# Altium integrated library Linear Technology Power Management LDO Linear Regulators.IntLib: 2339 symbols (part 62 of 131)
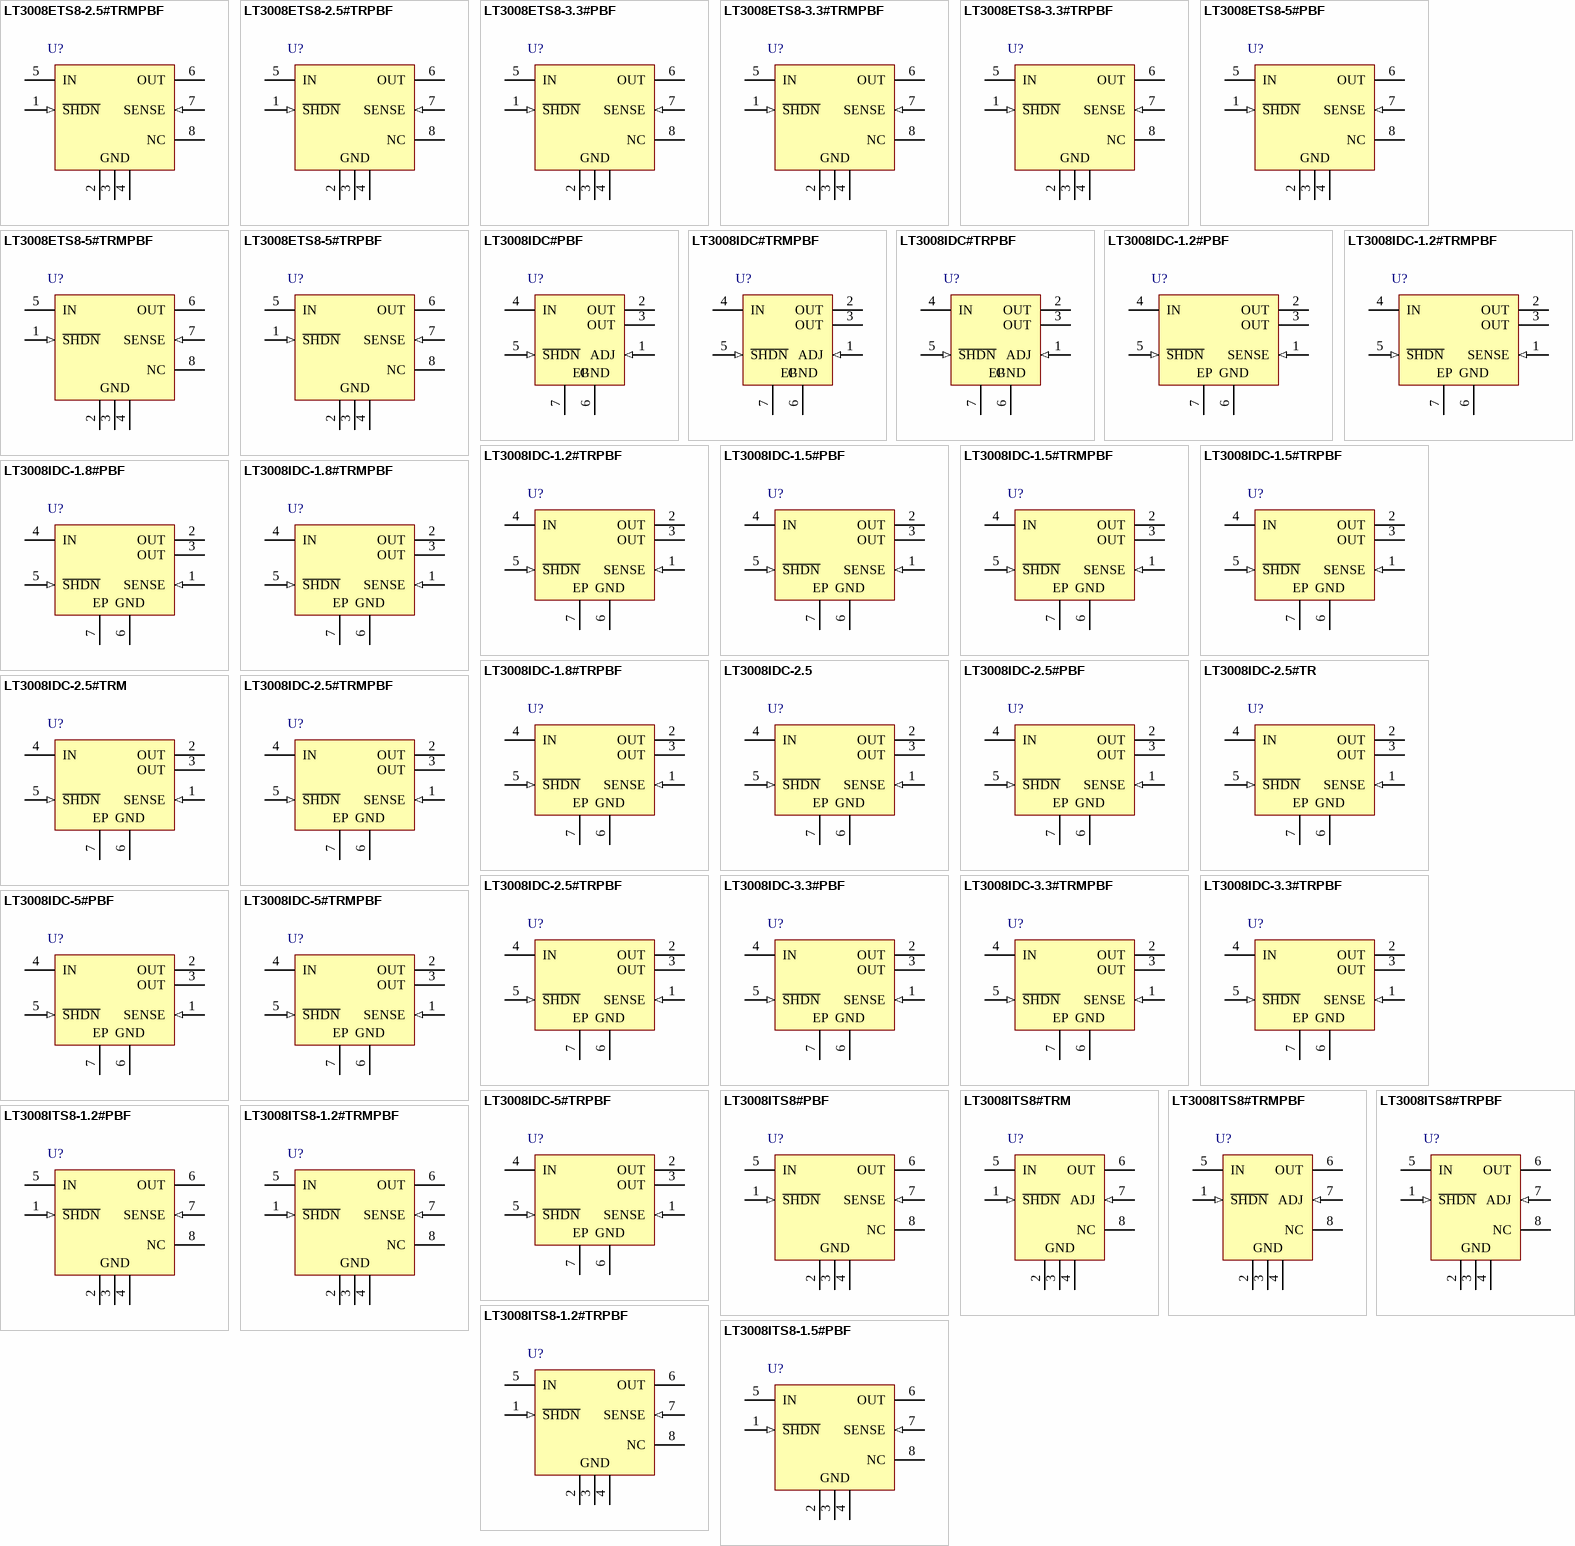
[diagram p130: symbols LT3008ETS8-2.5#TRMPBF to LT3008ITS8-1.5#PBF]

## LT3008ETS8-2.5#TRPBF
designator U?
3 uA IQ, 20 mA, Low Dropout Linear Regulator, 2 to 45 V Vin, 2.5 V Vout, 8-pin SOT23 (TS8-8), -40 to 125 degC, Pb-Free, Tape and Reel; Manufacturer: Linear Technology; PartNumber: LT3008ETS8-2.5#TRPBF; Discrete Pass Element: no; Dropout Voltage(V): 0.3; Iout(mA): 20; Isupply(mA): 0.003; Noise(uV): 92; Number of Outputs: 1; Output Voltage: 2.5 V; PSRR(dB): 61; Vin Max(V): 45; Vin Min(V): 2; DatasheetVersion: Rev. C; PackageVersion: Rev. A, 08/2010; PackageReference: TS8-8; PackageDescription: 8-Pin Plastic TSOT-23, Body 2.9 x 1.63 mm, Pitch 0.65 mm; Supplier 1: Digi-Key; Supplier Part Number 1: LT3008ETS8-2.5#TRPBF-ND; Packing: Tape and Reel; RoHS: TRUE; Shutdown Current(uA): 1; Mounting Technology: Surface Mount; Code_JEDEC: MO-193; ComponentLink1Description: Manufacturer URL; ComponentLink1URL: http://www.linear.com/; ComponentLink2Description: Datasheet; ComponentLink2URL: http://cds.linear.com/docs/en/datasheet/3008fc.pdf; ComponentLink3Description: Package Specification; ComponentLink3URL: http://cds.linear.com/docs/en/packaging/SOT_8_05-08-1637.pdf
footprint LT-TS8-8-TSOT-23_V (SOT23, 8-Leads, Body 2.90x1.63mm, Pitch 0.65mm, Recommended)
pins: 1 ~{SHDN} (in) "Shutdown. Pulling the S\H\D\N\ pin  low puts the LT3008 into a low power state and turns the  output off. If unused, tie the S\H\D\N\ pin to VIN. The LT3008  does not function if the S\H\D\N\ pin is not connected. The (See Datasheet)", 2 GND (power) "Ground. Connect the bottom of the resistor divider that sets output voltage directly to GND for the best regulation.", 3 GND (power) "Ground. Connect the bottom of the resistor divider that sets output voltage directly to GND for the best regulation.", 4 GND (power) "Ground. Connect the bottom of the resistor divider that sets output voltage directly to GND for the best regulation.", 5 IN (power) "Input. The IN pin supplies power to the device. The LT3008 requires a bypass capacitor at IN if  the device is more than six inches away from the main  input ?lter capacitor. In general, the output impedance of a batter(See Datasheet)", 6 OUT (power) "Output. This pin supplies power to the load. Use a minimum output capacitor of 2.2uF  to prevent oscillations. Large load transient applications  require larger output capacitors to limit peak voltage transients. See the (See Datasheet)", 7 SENSE (in) "Sense. For ?xed voltage versions of  the LT3008 (LT3008-1.2, LT3008-1.5, LT3008-1.8, LT3008- 2.5, LT3008-3.3, LT3008-5), the SENSE pin is the input to the error ampli?er. Optimum regulation is obtained at the point wh(See Datasheet)", 8 NC "No Connect. Pin 8  is an NC pin in the TSOT-23 package. This pin is not tied  to any internal circuitry. It may be ? oated, tied to VIN or  tied to GND."

## LT3008ETS8-3.3#PBF
designator U?
3 uA IQ, 20 mA, Low Dropout Linear Regulator, 2 to 45 V Vin, 3.3 V Vout, 8-pin SOT23 (TS8-8), -40 to 125 degC, Pb-Free; Manufacturer: Linear Technology; PartNumber: LT3008ETS8-3.3#PBF; Discrete Pass Element: no; Dropout Voltage(V): 0.3; Iout(mA): 20; Isupply(mA): 0.003; Noise(uV): 92; Number of Outputs: 1; Output Voltage: 3.3 V; PSRR(dB): 59; Vin Max(V): 45; Vin Min(V): 2; DatasheetVersion: Rev. C; PackageVersion: Rev. A, 08/2010; PackageReference: TS8-8; PackageDescription: 8-Pin Plastic TSOT-23, Body 2.9 x 1.63 mm, Pitch 0.65 mm; Supplier 1: Farnell; Supplier Part Number 1: 2308193; Supplier 2: Newark; Supplier Part Number 2: 78T3789; RoHS: TRUE; Shutdown Current(uA): 1; Mounting Technology: Surface Mount; Code_JEDEC: MO-193; ComponentLink1Description: Manufacturer URL; ComponentLink1URL: http://www.linear.com/; ComponentLink2Description: Datasheet; ComponentLink2URL: http://cds.linear.com/docs/en/datasheet/3008fc.pdf; ComponentLink3Description: Package Specification; ComponentLink3URL: http://cds.linear.com/docs/en/packaging/SOT_8_05-08-1637.pdf
footprint LT-TS8-8-TSOT-23_V (SOT23, 8-Leads, Body 2.90x1.63mm, Pitch 0.65mm, Recommended)
pins: 1 ~{SHDN} (in) "Shutdown. Pulling the S\H\D\N\ pin  low puts the LT3008 into a low power state and turns the  output off. If unused, tie the S\H\D\N\ pin to VIN. The LT3008  does not function if the S\H\D\N\ pin is not connected. The (See Datasheet)", 2 GND (power) "Ground. Connect the bottom of the resistor divider that sets output voltage directly to GND for the best regulation.", 3 GND (power) "Ground. Connect the bottom of the resistor divider that sets output voltage directly to GND for the best regulation.", 4 GND (power) "Ground. Connect the bottom of the resistor divider that sets output voltage directly to GND for the best regulation.", 5 IN (power) "Input. The IN pin supplies power to the device. The LT3008 requires a bypass capacitor at IN if  the device is more than six inches away from the main  input ?lter capacitor. In general, the output impedance of a batter(See Datasheet)", 6 OUT (power) "Output. This pin supplies power to the load. Use a minimum output capacitor of 2.2uF  to prevent oscillations. Large load transient applications  require larger output capacitors to limit peak voltage transients. See the (See Datasheet)", 7 SENSE (in) "Sense. For ?xed voltage versions of  the LT3008 (LT3008-1.2, LT3008-1.5, LT3008-1.8, LT3008- 2.5, LT3008-3.3, LT3008-5), the SENSE pin is the input to the error ampli?er. Optimum regulation is obtained at the point wh(See Datasheet)", 8 NC "No Connect. Pin 8  is an NC pin in the TSOT-23 package. This pin is not tied  to any internal circuitry. It may be ? oated, tied to VIN or  tied to GND."

## LT3008ETS8-3.3#TRMPBF
designator U?
3 uA IQ, 20 mA, Low Dropout Linear Regulator, 2 to 45 V Vin, 3.3 V Vout, 8-pin SOT23 (TS8-8), -40 to 125 degC, Pb-Free, Mini Tape and Reel; Manufacturer: Linear Technology; PartNumber: LT3008ETS8-3.3#TRMPBF; Discrete Pass Element: no; Dropout Voltage(V): 0.3; Iout(mA): 20; Isupply(mA): 0.003; Noise(uV): 92; Number of Outputs: 1; Output Voltage: 3.3 V; PSRR(dB): 59; Vin Max(V): 45; Vin Min(V): 2; DatasheetVersion: Rev. C; PackageVersion: Rev. A, 08/2010; PackageReference: TS8-8; PackageDescription: 8-Pin Plastic TSOT-23, Body 2.9 x 1.63 mm, Pitch 0.65 mm; Supplier 1: Digi-Key; Supplier Part Number 1: LT3008ETS8-3.3#TRMPBFTR-ND; Supplier 2: Digi-Key; Supplier Part Number 2: LT3008ETS8-3.3#TRMPBFCT-ND; Supplier 3: Digi-Key; Supplier Part Number 3: LT3008ETS8-3.3#TRMPBFDKR-ND; Supplier 4: Newark; Supplier Part Number 4: 24R6711; Packing: Mini Tape and Reel; RoHS: TRUE; Shutdown Current(uA): 1; Mounting Technology: Surface Mount; Code_JEDEC: MO-193; ComponentLink1Description: Manufacturer URL; ComponentLink1URL: http://www.linear.com/; ComponentLink2Description: Datasheet; ComponentLink2URL: http://cds.linear.com/docs/en/datasheet/3008fc.pdf; ComponentLink3Description: Package Specification; ComponentLink3URL: http://cds.linear.com/docs/en/packaging/SOT_8_05-08-1637.pdf
footprint LT-TS8-8-TSOT-23_V (SOT23, 8-Leads, Body 2.90x1.63mm, Pitch 0.65mm, Recommended)
pins: 1 ~{SHDN} (in) "Shutdown. Pulling the S\H\D\N\ pin  low puts the LT3008 into a low power state and turns the  output off. If unused, tie the S\H\D\N\ pin to VIN. The LT3008  does not function if the S\H\D\N\ pin is not connected. The (See Datasheet)", 2 GND (power) "Ground. Connect the bottom of the resistor divider that sets output voltage directly to GND for the best regulation.", 3 GND (power) "Ground. Connect the bottom of the resistor divider that sets output voltage directly to GND for the best regulation.", 4 GND (power) "Ground. Connect the bottom of the resistor divider that sets output voltage directly to GND for the best regulation.", 5 IN (power) "Input. The IN pin supplies power to the device. The LT3008 requires a bypass capacitor at IN if  the device is more than six inches away from the main  input ?lter capacitor. In general, the output impedance of a batter(See Datasheet)", 6 OUT (power) "Output. This pin supplies power to the load. Use a minimum output capacitor of 2.2uF  to prevent oscillations. Large load transient applications  require larger output capacitors to limit peak voltage transients. See the (See Datasheet)", 7 SENSE (in) "Sense. For ?xed voltage versions of  the LT3008 (LT3008-1.2, LT3008-1.5, LT3008-1.8, LT3008- 2.5, LT3008-3.3, LT3008-5), the SENSE pin is the input to the error ampli?er. Optimum regulation is obtained at the point wh(See Datasheet)", 8 NC "No Connect. Pin 8  is an NC pin in the TSOT-23 package. This pin is not tied  to any internal circuitry. It may be ? oated, tied to VIN or  tied to GND."

## LT3008ETS8-3.3#TRPBF
designator U?
3 uA IQ, 20 mA, Low Dropout Linear Regulator, 2 to 45 V Vin, 3.3 V Vout, 8-pin SOT23 (TS8-8), -40 to 125 degC, Pb-Free, Tape and Reel; Manufacturer: Linear Technology; PartNumber: LT3008ETS8-3.3#TRPBF; Discrete Pass Element: no; Dropout Voltage(V): 0.3; Iout(mA): 20; Isupply(mA): 0.003; Noise(uV): 92; Number of Outputs: 1; Output Voltage: 3.3 V; PSRR(dB): 59; Vin Max(V): 45; Vin Min(V): 2; DatasheetVersion: Rev. C; PackageVersion: Rev. A, 08/2010; PackageReference: TS8-8; PackageDescription: 8-Pin Plastic TSOT-23, Body 2.9 x 1.63 mm, Pitch 0.65 mm; Supplier 1: Digi-Key; Supplier Part Number 1: LT3008ETS8-3.3#TRPBF-ND; Supplier 2: Newark; Supplier Part Number 2: 24R6712; Packing: Tape and Reel; RoHS: TRUE; Shutdown Current(uA): 1; Mounting Technology: Surface Mount; Code_JEDEC: MO-193; ComponentLink1Description: Manufacturer URL; ComponentLink1URL: http://www.linear.com/; ComponentLink2Description: Datasheet; ComponentLink2URL: http://cds.linear.com/docs/en/datasheet/3008fc.pdf; ComponentLink3Description: Package Specification; ComponentLink3URL: http://cds.linear.com/docs/en/packaging/SOT_8_05-08-1637.pdf
footprint LT-TS8-8-TSOT-23_V (SOT23, 8-Leads, Body 2.90x1.63mm, Pitch 0.65mm, Recommended)
pins: 1 ~{SHDN} (in) "Shutdown. Pulling the S\H\D\N\ pin  low puts the LT3008 into a low power state and turns the  output off. If unused, tie the S\H\D\N\ pin to VIN. The LT3008  does not function if the S\H\D\N\ pin is not connected. The (See Datasheet)", 2 GND (power) "Ground. Connect the bottom of the resistor divider that sets output voltage directly to GND for the best regulation.", 3 GND (power) "Ground. Connect the bottom of the resistor divider that sets output voltage directly to GND for the best regulation.", 4 GND (power) "Ground. Connect the bottom of the resistor divider that sets output voltage directly to GND for the best regulation.", 5 IN (power) "Input. The IN pin supplies power to the device. The LT3008 requires a bypass capacitor at IN if  the device is more than six inches away from the main  input ?lter capacitor. In general, the output impedance of a batter(See Datasheet)", 6 OUT (power) "Output. This pin supplies power to the load. Use a minimum output capacitor of 2.2uF  to prevent oscillations. Large load transient applications  require larger output capacitors to limit peak voltage transients. See the (See Datasheet)", 7 SENSE (in) "Sense. For ?xed voltage versions of  the LT3008 (LT3008-1.2, LT3008-1.5, LT3008-1.8, LT3008- 2.5, LT3008-3.3, LT3008-5), the SENSE pin is the input to the error ampli?er. Optimum regulation is obtained at the point wh(See Datasheet)", 8 NC "No Connect. Pin 8  is an NC pin in the TSOT-23 package. This pin is not tied  to any internal circuitry. It may be ? oated, tied to VIN or  tied to GND."

## LT3008ETS8-5#PBF
designator U?
3 uA IQ, 20 mA, Low Dropout Linear Regulator, 2 to 45 V Vin, 5 V Vout, 8-pin SOT23 (TS8-8), -40 to 125 degC, Pb-Free; Manufacturer: Linear Technology; PartNumber: LT3008ETS8-5#PBF; Discrete Pass Element: no; Dropout Voltage(V): 0.3; Iout(mA): 20; Isupply(mA): 0.003; Noise(uV): 92; Number of Outputs: 1; Output Voltage: 5 V; PSRR(dB): 54; Vin Max(V): 45; Vin Min(V): 2; DatasheetVersion: Rev. C; PackageVersion: Rev. A, 08/2010; PackageReference: TS8-8; PackageDescription: 8-Pin Plastic TSOT-23, Body 2.9 x 1.63 mm, Pitch 0.65 mm; Supplier 1: Farnell; Supplier Part Number 1: 2308194; Supplier 2: Newark; Supplier Part Number 2: 78T3790; RoHS: TRUE; Shutdown Current(uA): 1; Mounting Technology: Surface Mount; Code_JEDEC: MO-193; ComponentLink1Description: Manufacturer URL; ComponentLink1URL: http://www.linear.com/; ComponentLink2Description: Datasheet; ComponentLink2URL: http://cds.linear.com/docs/en/datasheet/3008fc.pdf; ComponentLink3Description: Package Specification; ComponentLink3URL: http://cds.linear.com/docs/en/packaging/SOT_8_05-08-1637.pdf
footprint LT-TS8-8-TSOT-23_V (SOT23, 8-Leads, Body 2.90x1.63mm, Pitch 0.65mm, Recommended)
pins: 1 ~{SHDN} (in) "Shutdown. Pulling the S\H\D\N\ pin  low puts the LT3008 into a low power state and turns the  output off. If unused, tie the S\H\D\N\ pin to VIN. The LT3008  does not function if the S\H\D\N\ pin is not connected. The (See Datasheet)", 2 GND (power) "Ground. Connect the bottom of the resistor divider that sets output voltage directly to GND for the best regulation.", 3 GND (power) "Ground. Connect the bottom of the resistor divider that sets output voltage directly to GND for the best regulation.", 4 GND (power) "Ground. Connect the bottom of the resistor divider that sets output voltage directly to GND for the best regulation.", 5 IN (power) "Input. The IN pin supplies power to the device. The LT3008 requires a bypass capacitor at IN if  the device is more than six inches away from the main  input ?lter capacitor. In general, the output impedance of a batter(See Datasheet)", 6 OUT (power) "Output. This pin supplies power to the load. Use a minimum output capacitor of 2.2uF  to prevent oscillations. Large load transient applications  require larger output capacitors to limit peak voltage transients. See the (See Datasheet)", 7 SENSE (in) "Sense. For ?xed voltage versions of  the LT3008 (LT3008-1.2, LT3008-1.5, LT3008-1.8, LT3008- 2.5, LT3008-3.3, LT3008-5), the SENSE pin is the input to the error ampli?er. Optimum regulation is obtained at the point wh(See Datasheet)", 8 NC "No Connect. Pin 8  is an NC pin in the TSOT-23 package. This pin is not tied  to any internal circuitry. It may be ? oated, tied to VIN or  tied to GND."

## LT3008ETS8-5#TRMPBF
designator U?
3 uA IQ, 20 mA, Low Dropout Linear Regulator, 2 to 45 V Vin, 5 V Vout, 8-pin SOT23 (TS8-8), -40 to 125 degC, Pb-Free, Mini Tape and Reel; Manufacturer: Linear Technology; PartNumber: LT3008ETS8-5#TRMPBF; Discrete Pass Element: no; Dropout Voltage(V): 0.3; Iout(mA): 20; Isupply(mA): 0.003; Noise(uV): 92; Number of Outputs: 1; Output Voltage: 5 V; PSRR(dB): 54; Vin Max(V): 45; Vin Min(V): 2; DatasheetVersion: Rev. C; PackageVersion: Rev. A, 08/2010; PackageReference: TS8-8; PackageDescription: 8-Pin Plastic TSOT-23, Body 2.9 x 1.63 mm, Pitch 0.65 mm; Supplier 1: Digi-Key; Supplier Part Number 1: LT3008ETS8-5#TRMPBFTR-ND; Supplier 2: Digi-Key; Supplier Part Number 2: LT3008ETS8-5#TRMPBFCT-ND; Supplier 3: Digi-Key; Supplier Part Number 3: LT3008ETS8-5#TRMPBFDKR-ND; Supplier 4: Newark; Supplier Part Number 4: 24R6713; Packing: Mini Tape and Reel; RoHS: TRUE; Shutdown Current(uA): 1; Mounting Technology: Surface Mount; Code_JEDEC: MO-193; ComponentLink1Description: Manufacturer URL; ComponentLink1URL: http://www.linear.com/; ComponentLink2Description: Datasheet; ComponentLink2URL: http://cds.linear.com/docs/en/datasheet/3008fc.pdf; ComponentLink3Description: Package Specification; ComponentLink3URL: http://cds.linear.com/docs/en/packaging/SOT_8_05-08-1637.pdf
footprint LT-TS8-8-TSOT-23_V (SOT23, 8-Leads, Body 2.90x1.63mm, Pitch 0.65mm, Recommended)
pins: 1 ~{SHDN} (in) "Shutdown. Pulling the S\H\D\N\ pin  low puts the LT3008 into a low power state and turns the  output off. If unused, tie the S\H\D\N\ pin to VIN. The LT3008  does not function if the S\H\D\N\ pin is not connected. The (See Datasheet)", 2 GND (power) "Ground. Connect the bottom of the resistor divider that sets output voltage directly to GND for the best regulation.", 3 GND (power) "Ground. Connect the bottom of the resistor divider that sets output voltage directly to GND for the best regulation.", 4 GND (power) "Ground. Connect the bottom of the resistor divider that sets output voltage directly to GND for the best regulation.", 5 IN (power) "Input. The IN pin supplies power to the device. The LT3008 requires a bypass capacitor at IN if  the device is more than six inches away from the main  input ?lter capacitor. In general, the output impedance of a batter(See Datasheet)", 6 OUT (power) "Output. This pin supplies power to the load. Use a minimum output capacitor of 2.2uF  to prevent oscillations. Large load transient applications  require larger output capacitors to limit peak voltage transients. See the (See Datasheet)", 7 SENSE (in) "Sense. For ?xed voltage versions of  the LT3008 (LT3008-1.2, LT3008-1.5, LT3008-1.8, LT3008- 2.5, LT3008-3.3, LT3008-5), the SENSE pin is the input to the error ampli?er. Optimum regulation is obtained at the point wh(See Datasheet)", 8 NC "No Connect. Pin 8  is an NC pin in the TSOT-23 package. This pin is not tied  to any internal circuitry. It may be ? oated, tied to VIN or  tied to GND."

## LT3008ETS8-5#TRPBF
designator U?
3 uA IQ, 20 mA, Low Dropout Linear Regulator, 2 to 45 V Vin, 5 V Vout, 8-pin SOT23 (TS8-8), -40 to 125 degC, Pb-Free, Tape and Reel; Manufacturer: Linear Technology; PartNumber: LT3008ETS8-5#TRPBF; Discrete Pass Element: no; Dropout Voltage(V): 0.3; Iout(mA): 20; Isupply(mA): 0.003; Noise(uV): 92; Number of Outputs: 1; Output Voltage: 5 V; PSRR(dB): 54; Vin Max(V): 45; Vin Min(V): 2; DatasheetVersion: Rev. C; PackageVersion: Rev. A, 08/2010; PackageReference: TS8-8; PackageDescription: 8-Pin Plastic TSOT-23, Body 2.9 x 1.63 mm, Pitch 0.65 mm; Supplier 1: Digi-Key; Supplier Part Number 1: LT3008ETS8-5#TRPBF-ND; Packing: Tape and Reel; RoHS: TRUE; Shutdown Current(uA): 1; Mounting Technology: Surface Mount; Code_JEDEC: MO-193; ComponentLink1Description: Manufacturer URL; ComponentLink1URL: http://www.linear.com/; ComponentLink2Description: Datasheet; ComponentLink2URL: http://cds.linear.com/docs/en/datasheet/3008fc.pdf; ComponentLink3Description: Package Specification; ComponentLink3URL: http://cds.linear.com/docs/en/packaging/SOT_8_05-08-1637.pdf
footprint LT-TS8-8-TSOT-23_V (SOT23, 8-Leads, Body 2.90x1.63mm, Pitch 0.65mm, Recommended)
pins: 1 ~{SHDN} (in) "Shutdown. Pulling the S\H\D\N\ pin  low puts the LT3008 into a low power state and turns the  output off. If unused, tie the S\H\D\N\ pin to VIN. The LT3008  does not function if the S\H\D\N\ pin is not connected. The (See Datasheet)", 2 GND (power) "Ground. Connect the bottom of the resistor divider that sets output voltage directly to GND for the best regulation.", 3 GND (power) "Ground. Connect the bottom of the resistor divider that sets output voltage directly to GND for the best regulation.", 4 GND (power) "Ground. Connect the bottom of the resistor divider that sets output voltage directly to GND for the best regulation.", 5 IN (power) "Input. The IN pin supplies power to the device. The LT3008 requires a bypass capacitor at IN if  the device is more than six inches away from the main  input ?lter capacitor. In general, the output impedance of a batter(See Datasheet)", 6 OUT (power) "Output. This pin supplies power to the load. Use a minimum output capacitor of 2.2uF  to prevent oscillations. Large load transient applications  require larger output capacitors to limit peak voltage transients. See the (See Datasheet)", 7 SENSE (in) "Sense. For ?xed voltage versions of  the LT3008 (LT3008-1.2, LT3008-1.5, LT3008-1.8, LT3008- 2.5, LT3008-3.3, LT3008-5), the SENSE pin is the input to the error ampli?er. Optimum regulation is obtained at the point wh(See Datasheet)", 8 NC "No Connect. Pin 8  is an NC pin in the TSOT-23 package. This pin is not tied  to any internal circuitry. It may be ? oated, tied to VIN or  tied to GND."

## LT3008IDC#PBF
designator U?
3 uA IQ, 20 mA, Low Dropout Linear Regulator, 2 to 45 V Vin, Adjustable Vout, 6-pin SON (DC6-6), -40 to 125 degC, Pb-Free; Manufacturer: Linear Technology; PartNumber: LT3008IDC#PBF; Discrete Pass Element: no; Dropout Voltage(V): 0.3; Iout(mA): 20; Isupply(mA): 0.003; Noise(uV): 92; Number of Outputs: 1; Output Voltage: Adj; PSRR(dB): 70; Vin Max(V): 45; Vin Min(V): 2; Vout Max(V): 44.5; Vout Min(V): 0.6; DatasheetVersion: Rev. C; PackageVersion: Rev. B, 06/2010; PackageReference: DC6-6; PackageDescription: 6-Pin Plastic DFN, Body 2 x 2 mm, Pitch 0.5 mm; Supplier 1: Newark; Supplier Part Number 1: 78T3797; RoHS: TRUE; Shutdown Current(uA): 1; Mounting Technology: Surface Mount; Code_JEDEC: MO-229; ComponentLink1Description: Manufacturer URL; ComponentLink1URL: http://www.linear.com/; ComponentLink2Description: Datasheet; ComponentLink2URL: http://cds.linear.com/docs/en/datasheet/3008fc.pdf; ComponentLink3Description: Package Specification; ComponentLink3URL: http://cds.linear.com/docs/en/packaging/DFN_6_05-08-1703.pdf
footprint LT-DC6-6_V (SON, 6-Leads, Body 2x2mm, Pitch 0.5mm, Thermal Pad 1.42x0.61mm)
pins: 1 ADJ (in), 2 OUT (power), 3 OUT (power), 4 IN (power), 5 ~{SHDN} (in), 6 GND (power) "Ground. Connect the bottom of the resistor divider that sets output voltage directly to GND for the best regulation.", 7 EP (power) "Ground. The Exposed Pad (backside) of the DFN package is an electrical connection to GND. To ensure optimum performance, solder Pin 7 to the PCB and tie directly to Pin 6."

## LT3008IDC#TRMPBF
designator U?
3 uA IQ, 20 mA, Low Dropout Linear Regulator, 2 to 45 V Vin, Adjustable Vout, 6-pin SON (DC6-6), -40 to 125 degC, Pb-Free, Mini Tape and Reel; Manufacturer: Linear Technology; PartNumber: LT3008IDC#TRMPBF; Discrete Pass Element: no; Dropout Voltage(V): 0.3; Iout(mA): 20; Isupply(mA): 0.003; Noise(uV): 92; Number of Outputs: 1; Output Voltage: Adj; PSRR(dB): 70; Vin Max(V): 45; Vin Min(V): 2; Vout Max(V): 44.5; Vout Min(V): 0.6; DatasheetVersion: Rev. C; PackageVersion: Rev. B, 06/2010; PackageReference: DC6-6; PackageDescription: 6-Pin Plastic DFN, Body 2 x 2 mm, Pitch 0.5 mm; Supplier 1: Digi-Key; Supplier Part Number 1: LT3008IDC#TRMPBF-ND; Packing: Mini Tape and Reel; RoHS: TRUE; Shutdown Current(uA): 1; Mounting Technology: Surface Mount; Code_JEDEC: MO-229; ComponentLink1Description: Manufacturer URL; ComponentLink1URL: http://www.linear.com/; ComponentLink2Description: Datasheet; ComponentLink2URL: http://cds.linear.com/docs/en/datasheet/3008fc.pdf; ComponentLink3Description: Package Specification; ComponentLink3URL: http://cds.linear.com/docs/en/packaging/DFN_6_05-08-1703.pdf
footprint LT-DC6-6_V (SON, 6-Leads, Body 2x2mm, Pitch 0.5mm, Thermal Pad 1.42x0.61mm)
pins: 1 ADJ (in), 2 OUT (power), 3 OUT (power), 4 IN (power), 5 ~{SHDN} (in), 6 GND (power) "Ground. Connect the bottom of the resistor divider that sets output voltage directly to GND for the best regulation.", 7 EP (power) "Ground. The Exposed Pad (backside) of the DFN package is an electrical connection to GND. To ensure optimum performance, solder Pin 7 to the PCB and tie directly to Pin 6."

## LT3008IDC#TRPBF
designator U?
3 uA IQ, 20 mA, Low Dropout Linear Regulator, 2 to 45 V Vin, Adjustable Vout, 6-pin SON (DC6-6), -40 to 125 degC, Pb-Free, Tape and Reel; Manufacturer: Linear Technology; PartNumber: LT3008IDC#TRPBF; Discrete Pass Element: no; Dropout Voltage(V): 0.3; Iout(mA): 20; Isupply(mA): 0.003; Noise(uV): 92; Number of Outputs: 1; Output Voltage: Adj; PSRR(dB): 70; Vin Max(V): 45; Vin Min(V): 2; Vout Max(V): 44.5; Vout Min(V): 0.6; DatasheetVersion: Rev. C; PackageVersion: Rev. B, 06/2010; PackageReference: DC6-6; PackageDescription: 6-Pin Plastic DFN, Body 2 x 2 mm, Pitch 0.5 mm; Supplier 1: Digi-Key; Supplier Part Number 1: LT3008IDC#TRPBF-ND; Supplier 2: Newark; Supplier Part Number 2: 44P4023; Packing: Tape and Reel; RoHS: TRUE; Shutdown Current(uA): 1; Mounting Technology: Surface Mount; Code_JEDEC: MO-229; ComponentLink1Description: Manufacturer URL; ComponentLink1URL: http://www.linear.com/; ComponentLink2Description: Datasheet; ComponentLink2URL: http://cds.linear.com/docs/en/datasheet/3008fc.pdf; ComponentLink3Description: Package Specification; ComponentLink3URL: http://cds.linear.com/docs/en/packaging/DFN_6_05-08-1703.pdf
footprint LT-DC6-6_V (SON, 6-Leads, Body 2x2mm, Pitch 0.5mm, Thermal Pad 1.42x0.61mm)
pins: 1 ADJ (in), 2 OUT (power), 3 OUT (power), 4 IN (power), 5 ~{SHDN} (in), 6 GND (power) "Ground. Connect the bottom of the resistor divider that sets output voltage directly to GND for the best regulation.", 7 EP (power) "Ground. The Exposed Pad (backside) of the DFN package is an electrical connection to GND. To ensure optimum performance, solder Pin 7 to the PCB and tie directly to Pin 6."

## LT3008IDC-1.2#PBF
designator U?
3 uA IQ, 20 mA, Low Dropout Linear Regulator, 2 to 45 V Vin, 1.2 V Vout, 6-pin SON (DC6-6), -40 to 125 degC, Pb-Free; Manufacturer: Linear Technology; PartNumber: LT3008IDC-1.2#PBF; Discrete Pass Element: no; Dropout Voltage(V): 0.3; Iout(mA): 20; Isupply(mA): 0.003; Noise(uV): 92; Number of Outputs: 1; Output Voltage: 1.2 V; PSRR(dB): 66; Vin Max(V): 45; Vin Min(V): 2; DatasheetVersion: Rev. C; PackageVersion: Rev. B, 06/2010; PackageReference: DC6-6; PackageDescription: 6-Pin Plastic DFN, Body 2 x 2 mm, Pitch 0.5 mm; RoHS: TRUE; Shutdown Current(uA): 1; Mounting Technology: Surface Mount; Code_JEDEC: MO-229; ComponentLink1Description: Manufacturer URL; ComponentLink1URL: http://www.linear.com/; ComponentLink2Description: Datasheet; ComponentLink2URL: http://cds.linear.com/docs/en/datasheet/3008fc.pdf; ComponentLink3Description: Package Specification; ComponentLink3URL: http://cds.linear.com/docs/en/packaging/DFN_6_05-08-1703.pdf
footprint LT-DC6-6_V (SON, 6-Leads, Body 2x2mm, Pitch 0.5mm, Thermal Pad 1.42x0.61mm)
pins: 1 SENSE (in) "Sense. For fixed voltage versions of  the LT3008 (LT3008-1.2, LT3008-1.5, LT3008-1.8, LT3008- 2.5, LT3008-3.3, LT3008-5), the SENSE pin is the input to the error ampli?er. Optimum regulation is obtained at the point wh(See Datasheet)", 2 OUT (power) "Output. This pin supplies power to the load. Use a minimum output capacitor of 2.2uF  to prevent oscillations. Large load transient applications  require larger output capacitors to limit peak voltage  transients. See the (See Datasheet)", 3 OUT (power) "Output. This pin supplies power to the load. Use a minimum output capacitor of 2.2uF  to prevent oscillations. Large load transient applications  require larger output capacitors to limit peak voltage  transients. See the (See Datasheet)", 4 IN (power) "Input. The IN pin supplies power to the device. The LT3008 requires a bypass capacitor at IN if the device is more than six inches away from the main input ?lter capacitor. In general, the output impedance of  a batter(See Datasheet)", 5 ~{SHDN} (in) "Shutdown. Pulling the S\H\D\N\ pin  low puts the LT3008 into a low power state and turns the output off. If unused, tie the S\H\D\N\ pin to VIN. The LT3008 does not function if the S\H\D\N\ pin is not connected. The S\H\D\N\ (See Datasheet)", 6 GND (power) "Ground. Connect the bottom of the resistor divider that sets output voltage directly to GND for the best regulation.", 7 EP (power) "Ground. The exposed pad (backside) of the DFN package is an electrical connection to GND. To ensure optimum performance, solder Pin 7 to the PCB and tie directly to Pin 6."

## LT3008IDC-1.2#TRMPBF
designator U?
3 uA IQ, 20 mA, Low Dropout Linear Regulator, 2 to 45 V Vin, 1.2 V Vout, 6-pin SON (DC6-6), -40 to 125 degC, Pb-Free, Mini Tape and Reel; Manufacturer: Linear Technology; PartNumber: LT3008IDC-1.2#TRMPBF; Discrete Pass Element: no; Dropout Voltage(V): 0.3; Iout(mA): 20; Isupply(mA): 0.003; Noise(uV): 92; Number of Outputs: 1; Output Voltage: 1.2 V; PSRR(dB): 66; Vin Max(V): 45; Vin Min(V): 2; DatasheetVersion: Rev. C; PackageVersion: Rev. B, 06/2010; PackageReference: DC6-6; PackageDescription: 6-Pin Plastic DFN, Body 2 x 2 mm, Pitch 0.5 mm; Supplier 1: Digi-Key; Supplier Part Number 1: LT3008IDC-1.2#TRMPBF-ND; Packing: Mini Tape and Reel; RoHS: TRUE; Shutdown Current(uA): 1; Mounting Technology: Surface Mount; Code_JEDEC: MO-229; ComponentLink1Description: Manufacturer URL; ComponentLink1URL: http://www.linear.com/; ComponentLink2Description: Datasheet; ComponentLink2URL: http://cds.linear.com/docs/en/datasheet/3008fc.pdf; ComponentLink3Description: Package Specification; ComponentLink3URL: http://cds.linear.com/docs/en/packaging/DFN_6_05-08-1703.pdf
footprint LT-DC6-6_V (SON, 6-Leads, Body 2x2mm, Pitch 0.5mm, Thermal Pad 1.42x0.61mm)
pins: 1 SENSE (in) "Sense. For fixed voltage versions of  the LT3008 (LT3008-1.2, LT3008-1.5, LT3008-1.8, LT3008- 2.5, LT3008-3.3, LT3008-5), the SENSE pin is the input to the error ampli?er. Optimum regulation is obtained at the point wh(See Datasheet)", 2 OUT (power) "Output. This pin supplies power to the load. Use a minimum output capacitor of 2.2uF  to prevent oscillations. Large load transient applications  require larger output capacitors to limit peak voltage  transients. See the (See Datasheet)", 3 OUT (power) "Output. This pin supplies power to the load. Use a minimum output capacitor of 2.2uF  to prevent oscillations. Large load transient applications  require larger output capacitors to limit peak voltage  transients. See the (See Datasheet)", 4 IN (power) "Input. The IN pin supplies power to the device. The LT3008 requires a bypass capacitor at IN if the device is more than six inches away from the main input ?lter capacitor. In general, the output impedance of  a batter(See Datasheet)", 5 ~{SHDN} (in) "Shutdown. Pulling the S\H\D\N\ pin  low puts the LT3008 into a low power state and turns the output off. If unused, tie the S\H\D\N\ pin to VIN. The LT3008 does not function if the S\H\D\N\ pin is not connected. The S\H\D\N\ (See Datasheet)", 6 GND (power) "Ground. Connect the bottom of the resistor divider that sets output voltage directly to GND for the best regulation.", 7 EP (power) "Ground. The exposed pad (backside) of the DFN package is an electrical connection to GND. To ensure optimum performance, solder Pin 7 to the PCB and tie directly to Pin 6."

## LT3008IDC-1.2#TRPBF
designator U?
3 uA IQ, 20 mA, Low Dropout Linear Regulator, 2 to 45 V Vin, 1.2 V Vout, 6-pin SON (DC6-6), -40 to 125 degC, Pb-Free, Tape and Reel; Manufacturer: Linear Technology; PartNumber: LT3008IDC-1.2#TRPBF; Discrete Pass Element: no; Dropout Voltage(V): 0.3; Iout(mA): 20; Isupply(mA): 0.003; Noise(uV): 92; Number of Outputs: 1; Output Voltage: 1.2 V; PSRR(dB): 66; Vin Max(V): 45; Vin Min(V): 2; DatasheetVersion: Rev. C; PackageVersion: Rev. B, 06/2010; PackageReference: DC6-6; PackageDescription: 6-Pin Plastic DFN, Body 2 x 2 mm, Pitch 0.5 mm; Supplier 1: Digi-Key; Supplier Part Number 1: LT3008IDC-1.2#TRPBF-ND; Packing: Tape and Reel; RoHS: TRUE; Shutdown Current(uA): 1; Mounting Technology: Surface Mount; Code_JEDEC: MO-229; ComponentLink1Description: Manufacturer URL; ComponentLink1URL: http://www.linear.com/; ComponentLink2Description: Datasheet; ComponentLink2URL: http://cds.linear.com/docs/en/datasheet/3008fc.pdf; ComponentLink3Description: Package Specification; ComponentLink3URL: http://cds.linear.com/docs/en/packaging/DFN_6_05-08-1703.pdf
footprint LT-DC6-6_V (SON, 6-Leads, Body 2x2mm, Pitch 0.5mm, Thermal Pad 1.42x0.61mm)
pins: 1 SENSE (in) "Sense. For fixed voltage versions of  the LT3008 (LT3008-1.2, LT3008-1.5, LT3008-1.8, LT3008- 2.5, LT3008-3.3, LT3008-5), the SENSE pin is the input to the error ampli?er. Optimum regulation is obtained at the point wh(See Datasheet)", 2 OUT (power) "Output. This pin supplies power to the load. Use a minimum output capacitor of 2.2uF  to prevent oscillations. Large load transient applications  require larger output capacitors to limit peak voltage  transients. See the (See Datasheet)", 3 OUT (power) "Output. This pin supplies power to the load. Use a minimum output capacitor of 2.2uF  to prevent oscillations. Large load transient applications  require larger output capacitors to limit peak voltage  transients. See the (See Datasheet)", 4 IN (power) "Input. The IN pin supplies power to the device. The LT3008 requires a bypass capacitor at IN if the device is more than six inches away from the main input ?lter capacitor. In general, the output impedance of  a batter(See Datasheet)", 5 ~{SHDN} (in) "Shutdown. Pulling the S\H\D\N\ pin  low puts the LT3008 into a low power state and turns the output off. If unused, tie the S\H\D\N\ pin to VIN. The LT3008 does not function if the S\H\D\N\ pin is not connected. The S\H\D\N\ (See Datasheet)", 6 GND (power) "Ground. Connect the bottom of the resistor divider that sets output voltage directly to GND for the best regulation.", 7 EP (power) "Ground. The exposed pad (backside) of the DFN package is an electrical connection to GND. To ensure optimum performance, solder Pin 7 to the PCB and tie directly to Pin 6."

## LT3008IDC-1.5#PBF
designator U?
3 uA IQ, 20 mA, Low Dropout Linear Regulator, 2 to 45 V Vin, 1.5 V Vout, 6-pin SON (DC6-6), -40 to 125 degC, Pb-Free; Manufacturer: Linear Technology; PartNumber: LT3008IDC-1.5#PBF; Discrete Pass Element: no; Dropout Voltage(V): 0.3; Iout(mA): 20; Isupply(mA): 0.003; Noise(uV): 92; Number of Outputs: 1; Output Voltage: 1.5 V; PSRR(dB): 65; Vin Max(V): 45; Vin Min(V): 2; DatasheetVersion: Rev. C; PackageVersion: Rev. B, 06/2010; PackageReference: DC6-6; PackageDescription: 6-Pin Plastic DFN, Body 2 x 2 mm, Pitch 0.5 mm; RoHS: TRUE; Shutdown Current(uA): 1; Mounting Technology: Surface Mount; Code_JEDEC: MO-229; ComponentLink1Description: Manufacturer URL; ComponentLink1URL: http://www.linear.com/; ComponentLink2Description: Datasheet; ComponentLink2URL: http://cds.linear.com/docs/en/datasheet/3008fc.pdf; ComponentLink3Description: Package Specification; ComponentLink3URL: http://cds.linear.com/docs/en/packaging/DFN_6_05-08-1703.pdf
footprint LT-DC6-6_V (SON, 6-Leads, Body 2x2mm, Pitch 0.5mm, Thermal Pad 1.42x0.61mm)
pins: 1 SENSE (in) "Sense. For fixed voltage versions of  the LT3008 (LT3008-1.2, LT3008-1.5, LT3008-1.8, LT3008- 2.5, LT3008-3.3, LT3008-5), the SENSE pin is the input to the error ampli?er. Optimum regulation is obtained at the point wh(See Datasheet)", 2 OUT (power) "Output. This pin supplies power to the load. Use a minimum output capacitor of 2.2uF  to prevent oscillations. Large load transient applications  require larger output capacitors to limit peak voltage  transients. See the (See Datasheet)", 3 OUT (power) "Output. This pin supplies power to the load. Use a minimum output capacitor of 2.2uF  to prevent oscillations. Large load transient applications  require larger output capacitors to limit peak voltage  transients. See the (See Datasheet)", 4 IN (power) "Input. The IN pin supplies power to the device. The LT3008 requires a bypass capacitor at IN if the device is more than six inches away from the main input ?lter capacitor. In general, the output impedance of  a batter(See Datasheet)", 5 ~{SHDN} (in) "Shutdown. Pulling the S\H\D\N\ pin  low puts the LT3008 into a low power state and turns the output off. If unused, tie the S\H\D\N\ pin to VIN. The LT3008 does not function if the S\H\D\N\ pin is not connected. The S\H\D\N\ (See Datasheet)", 6 GND (power) "Ground. Connect the bottom of the resistor divider that sets output voltage directly to GND for the best regulation.", 7 EP (power) "Ground. The exposed pad (backside) of the DFN package is an electrical connection to GND. To ensure optimum performance, solder Pin 7 to the PCB and tie directly to Pin 6."

## LT3008IDC-1.5#TRMPBF
designator U?
3 uA IQ, 20 mA, Low Dropout Linear Regulator, 2 to 45 V Vin, 1.5 V Vout, 6-pin SON (DC6-6), -40 to 125 degC, Pb-Free, Mini Tape and Reel; Manufacturer: Linear Technology; PartNumber: LT3008IDC-1.5#TRMPBF; Discrete Pass Element: no; Dropout Voltage(V): 0.3; Iout(mA): 20; Isupply(mA): 0.003; Noise(uV): 92; Number of Outputs: 1; Output Voltage: 1.5 V; PSRR(dB): 65; Vin Max(V): 45; Vin Min(V): 2; DatasheetVersion: Rev. C; PackageVersion: Rev. B, 06/2010; PackageReference: DC6-6; PackageDescription: 6-Pin Plastic DFN, Body 2 x 2 mm, Pitch 0.5 mm; Supplier 1: Digi-Key; Supplier Part Number 1: LT3008IDC-1.5#TRMPBF-ND; Packing: Mini Tape and Reel; RoHS: TRUE; Shutdown Current(uA): 1; Mounting Technology: Surface Mount; Code_JEDEC: MO-229; ComponentLink1Description: Manufacturer URL; ComponentLink1URL: http://www.linear.com/; ComponentLink2Description: Datasheet; ComponentLink2URL: http://cds.linear.com/docs/en/datasheet/3008fc.pdf; ComponentLink3Description: Package Specification; ComponentLink3URL: http://cds.linear.com/docs/en/packaging/DFN_6_05-08-1703.pdf
footprint LT-DC6-6_V (SON, 6-Leads, Body 2x2mm, Pitch 0.5mm, Thermal Pad 1.42x0.61mm)
pins: 1 SENSE (in) "Sense. For fixed voltage versions of  the LT3008 (LT3008-1.2, LT3008-1.5, LT3008-1.8, LT3008- 2.5, LT3008-3.3, LT3008-5), the SENSE pin is the input to the error ampli?er. Optimum regulation is obtained at the point wh(See Datasheet)", 2 OUT (power) "Output. This pin supplies power to the load. Use a minimum output capacitor of 2.2uF  to prevent oscillations. Large load transient applications  require larger output capacitors to limit peak voltage  transients. See the (See Datasheet)", 3 OUT (power) "Output. This pin supplies power to the load. Use a minimum output capacitor of 2.2uF  to prevent oscillations. Large load transient applications  require larger output capacitors to limit peak voltage  transients. See the (See Datasheet)", 4 IN (power) "Input. The IN pin supplies power to the device. The LT3008 requires a bypass capacitor at IN if the device is more than six inches away from the main input ?lter capacitor. In general, the output impedance of  a batter(See Datasheet)", 5 ~{SHDN} (in) "Shutdown. Pulling the S\H\D\N\ pin  low puts the LT3008 into a low power state and turns the output off. If unused, tie the S\H\D\N\ pin to VIN. The LT3008 does not function if the S\H\D\N\ pin is not connected. The S\H\D\N\ (See Datasheet)", 6 GND (power) "Ground. Connect the bottom of the resistor divider that sets output voltage directly to GND for the best regulation.", 7 EP (power) "Ground. The exposed pad (backside) of the DFN package is an electrical connection to GND. To ensure optimum performance, solder Pin 7 to the PCB and tie directly to Pin 6."

## LT3008IDC-1.5#TRPBF
designator U?
3 uA IQ, 20 mA, Low Dropout Linear Regulator, 2 to 45 V Vin, 1.5 V Vout, 6-pin SON (DC6-6), -40 to 125 degC, Pb-Free, Tape and Reel; Manufacturer: Linear Technology; PartNumber: LT3008IDC-1.5#TRPBF; Discrete Pass Element: no; Dropout Voltage(V): 0.3; Iout(mA): 20; Isupply(mA): 0.003; Noise(uV): 92; Number of Outputs: 1; Output Voltage: 1.5 V; PSRR(dB): 65; Vin Max(V): 45; Vin Min(V): 2; DatasheetVersion: Rev. C; PackageVersion: Rev. B, 06/2010; PackageReference: DC6-6; PackageDescription: 6-Pin Plastic DFN, Body 2 x 2 mm, Pitch 0.5 mm; Supplier 1: Digi-Key; Supplier Part Number 1: LT3008IDC-1.5#TRPBF-ND; Packing: Tape and Reel; RoHS: TRUE; Shutdown Current(uA): 1; Mounting Technology: Surface Mount; Code_JEDEC: MO-229; ComponentLink1Description: Manufacturer URL; ComponentLink1URL: http://www.linear.com/; ComponentLink2Description: Datasheet; ComponentLink2URL: http://cds.linear.com/docs/en/datasheet/3008fc.pdf; ComponentLink3Description: Package Specification; ComponentLink3URL: http://cds.linear.com/docs/en/packaging/DFN_6_05-08-1703.pdf
footprint LT-DC6-6_V (SON, 6-Leads, Body 2x2mm, Pitch 0.5mm, Thermal Pad 1.42x0.61mm)
pins: 1 SENSE (in) "Sense. For fixed voltage versions of  the LT3008 (LT3008-1.2, LT3008-1.5, LT3008-1.8, LT3008- 2.5, LT3008-3.3, LT3008-5), the SENSE pin is the input to the error ampli?er. Optimum regulation is obtained at the point wh(See Datasheet)", 2 OUT (power) "Output. This pin supplies power to the load. Use a minimum output capacitor of 2.2uF  to prevent oscillations. Large load transient applications  require larger output capacitors to limit peak voltage  transients. See the (See Datasheet)", 3 OUT (power) "Output. This pin supplies power to the load. Use a minimum output capacitor of 2.2uF  to prevent oscillations. Large load transient applications  require larger output capacitors to limit peak voltage  transients. See the (See Datasheet)", 4 IN (power) "Input. The IN pin supplies power to the device. The LT3008 requires a bypass capacitor at IN if the device is more than six inches away from the main input ?lter capacitor. In general, the output impedance of  a batter(See Datasheet)", 5 ~{SHDN} (in) "Shutdown. Pulling the S\H\D\N\ pin  low puts the LT3008 into a low power state and turns the output off. If unused, tie the S\H\D\N\ pin to VIN. The LT3008 does not function if the S\H\D\N\ pin is not connected. The S\H\D\N\ (See Datasheet)", 6 GND (power) "Ground. Connect the bottom of the resistor divider that sets output voltage directly to GND for the best regulation.", 7 EP (power) "Ground. The exposed pad (backside) of the DFN package is an electrical connection to GND. To ensure optimum performance, solder Pin 7 to the PCB and tie directly to Pin 6."

## LT3008IDC-1.8#PBF
designator U?
3 uA IQ, 20 mA, Low Dropout Linear Regulator, 2 to 45 V Vin, 1.8 V Vout, 6-pin SON (DC6-6), -40 to 125 degC, Pb-Free; Manufacturer: Linear Technology; PartNumber: LT3008IDC-1.8#PBF; Discrete Pass Element: no; Dropout Voltage(V): 0.3; Iout(mA): 20; Isupply(mA): 0.003; Noise(uV): 92; Number of Outputs: 1; Output Voltage: 1.8 V; PSRR(dB): 64; Vin Max(V): 45; Vin Min(V): 2; DatasheetVersion: Rev. C; PackageVersion: Rev. B, 06/2010; PackageReference: DC6-6; PackageDescription: 6-Pin Plastic DFN, Body 2 x 2 mm, Pitch 0.5 mm; RoHS: TRUE; Shutdown Current(uA): 1; Mounting Technology: Surface Mount; Code_JEDEC: MO-229; ComponentLink1Description: Manufacturer URL; ComponentLink1URL: http://www.linear.com/; ComponentLink2Description: Datasheet; ComponentLink2URL: http://cds.linear.com/docs/en/datasheet/3008fc.pdf; ComponentLink3Description: Package Specification; ComponentLink3URL: http://cds.linear.com/docs/en/packaging/DFN_6_05-08-1703.pdf
footprint LT-DC6-6_V (SON, 6-Leads, Body 2x2mm, Pitch 0.5mm, Thermal Pad 1.42x0.61mm)
pins: 1 SENSE (in) "Sense. For fixed voltage versions of  the LT3008 (LT3008-1.2, LT3008-1.5, LT3008-1.8, LT3008- 2.5, LT3008-3.3, LT3008-5), the SENSE pin is the input to the error ampli?er. Optimum regulation is obtained at the point wh(See Datasheet)", 2 OUT (power) "Output. This pin supplies power to the load. Use a minimum output capacitor of 2.2uF  to prevent oscillations. Large load transient applications  require larger output capacitors to limit peak voltage  transients. See the (See Datasheet)", 3 OUT (power) "Output. This pin supplies power to the load. Use a minimum output capacitor of 2.2uF  to prevent oscillations. Large load transient applications  require larger output capacitors to limit peak voltage  transients. See the (See Datasheet)", 4 IN (power) "Input. The IN pin supplies power to the device. The LT3008 requires a bypass capacitor at IN if the device is more than six inches away from the main input ?lter capacitor. In general, the output impedance of  a batter(See Datasheet)", 5 ~{SHDN} (in) "Shutdown. Pulling the S\H\D\N\ pin  low puts the LT3008 into a low power state and turns the output off. If unused, tie the S\H\D\N\ pin to VIN. The LT3008 does not function if the S\H\D\N\ pin is not connected. The S\H\D\N\ (See Datasheet)", 6 GND (power) "Ground. Connect the bottom of the resistor divider that sets output voltage directly to GND for the best regulation.", 7 EP (power) "Ground. The exposed pad (backside) of the DFN package is an electrical connection to GND. To ensure optimum performance, solder Pin 7 to the PCB and tie directly to Pin 6."

## LT3008IDC-1.8#TRMPBF
designator U?
3 uA IQ, 20 mA, Low Dropout Linear Regulator, 2 to 45 V Vin, 1.8 V Vout, 6-pin SON (DC6-6), -40 to 125 degC, Pb-Free, Mini Tape and Reel; Manufacturer: Linear Technology; PartNumber: LT3008IDC-1.8#TRMPBF; Discrete Pass Element: no; Dropout Voltage(V): 0.3; Iout(mA): 20; Isupply(mA): 0.003; Noise(uV): 92; Number of Outputs: 1; Output Voltage: 1.8 V; PSRR(dB): 64; Vin Max(V): 45; Vin Min(V): 2; DatasheetVersion: Rev. C; PackageVersion: Rev. B, 06/2010; PackageReference: DC6-6; PackageDescription: 6-Pin Plastic DFN, Body 2 x 2 mm, Pitch 0.5 mm; Supplier 1: Digi-Key; Supplier Part Number 1: LT3008IDC-1.8#TRMPBF-ND; Packing: Mini Tape and Reel; RoHS: TRUE; Shutdown Current(uA): 1; Mounting Technology: Surface Mount; Code_JEDEC: MO-229; ComponentLink1Description: Manufacturer URL; ComponentLink1URL: http://www.linear.com/; ComponentLink2Description: Datasheet; ComponentLink2URL: http://cds.linear.com/docs/en/datasheet/3008fc.pdf; ComponentLink3Description: Package Specification; ComponentLink3URL: http://cds.linear.com/docs/en/packaging/DFN_6_05-08-1703.pdf
footprint LT-DC6-6_V (SON, 6-Leads, Body 2x2mm, Pitch 0.5mm, Thermal Pad 1.42x0.61mm)
pins: 1 SENSE (in) "Sense. For fixed voltage versions of  the LT3008 (LT3008-1.2, LT3008-1.5, LT3008-1.8, LT3008- 2.5, LT3008-3.3, LT3008-5), the SENSE pin is the input to the error ampli?er. Optimum regulation is obtained at the point wh(See Datasheet)", 2 OUT (power) "Output. This pin supplies power to the load. Use a minimum output capacitor of 2.2uF  to prevent oscillations. Large load transient applications  require larger output capacitors to limit peak voltage  transients. See the (See Datasheet)", 3 OUT (power) "Output. This pin supplies power to the load. Use a minimum output capacitor of 2.2uF  to prevent oscillations. Large load transient applications  require larger output capacitors to limit peak voltage  transients. See the (See Datasheet)", 4 IN (power) "Input. The IN pin supplies power to the device. The LT3008 requires a bypass capacitor at IN if the device is more than six inches away from the main input ?lter capacitor. In general, the output impedance of  a batter(See Datasheet)", 5 ~{SHDN} (in) "Shutdown. Pulling the S\H\D\N\ pin  low puts the LT3008 into a low power state and turns the output off. If unused, tie the S\H\D\N\ pin to VIN. The LT3008 does not function if the S\H\D\N\ pin is not connected. The S\H\D\N\ (See Datasheet)", 6 GND (power) "Ground. Connect the bottom of the resistor divider that sets output voltage directly to GND for the best regulation.", 7 EP (power) "Ground. The exposed pad (backside) of the DFN package is an electrical connection to GND. To ensure optimum performance, solder Pin 7 to the PCB and tie directly to Pin 6."

## LT3008IDC-1.8#TRPBF
designator U?
3 uA IQ, 20 mA, Low Dropout Linear Regulator, 2 to 45 V Vin, 1.8 V Vout, 6-pin SON (DC6-6), -40 to 125 degC, Pb-Free, Tape and Reel; Manufacturer: Linear Technology; PartNumber: LT3008IDC-1.8#TRPBF; Discrete Pass Element: no; Dropout Voltage(V): 0.3; Iout(mA): 20; Isupply(mA): 0.003; Noise(uV): 92; Number of Outputs: 1; Output Voltage: 1.8 V; PSRR(dB): 64; Vin Max(V): 45; Vin Min(V): 2; DatasheetVersion: Rev. C; PackageVersion: Rev. B, 06/2010; PackageReference: DC6-6; PackageDescription: 6-Pin Plastic DFN, Body 2 x 2 mm, Pitch 0.5 mm; Supplier 1: Digi-Key; Supplier Part Number 1: LT3008IDC-1.8#TRPBF-ND; Packing: Tape and Reel; RoHS: TRUE; Shutdown Current(uA): 1; Mounting Technology: Surface Mount; Code_JEDEC: MO-229; ComponentLink1Description: Manufacturer URL; ComponentLink1URL: http://www.linear.com/; ComponentLink2Description: Datasheet; ComponentLink2URL: http://cds.linear.com/docs/en/datasheet/3008fc.pdf; ComponentLink3Description: Package Specification; ComponentLink3URL: http://cds.linear.com/docs/en/packaging/DFN_6_05-08-1703.pdf
footprint LT-DC6-6_V (SON, 6-Leads, Body 2x2mm, Pitch 0.5mm, Thermal Pad 1.42x0.61mm)
pins: 1 SENSE (in) "Sense. For fixed voltage versions of  the LT3008 (LT3008-1.2, LT3008-1.5, LT3008-1.8, LT3008- 2.5, LT3008-3.3, LT3008-5), the SENSE pin is the input to the error ampli?er. Optimum regulation is obtained at the point wh(See Datasheet)", 2 OUT (power) "Output. This pin supplies power to the load. Use a minimum output capacitor of 2.2uF  to prevent oscillations. Large load transient applications  require larger output capacitors to limit peak voltage  transients. See the (See Datasheet)", 3 OUT (power) "Output. This pin supplies power to the load. Use a minimum output capacitor of 2.2uF  to prevent oscillations. Large load transient applications  require larger output capacitors to limit peak voltage  transients. See the (See Datasheet)", 4 IN (power) "Input. The IN pin supplies power to the device. The LT3008 requires a bypass capacitor at IN if the device is more than six inches away from the main input ?lter capacitor. In general, the output impedance of  a batter(See Datasheet)", 5 ~{SHDN} (in) "Shutdown. Pulling the S\H\D\N\ pin  low puts the LT3008 into a low power state and turns the output off. If unused, tie the S\H\D\N\ pin to VIN. The LT3008 does not function if the S\H\D\N\ pin is not connected. The S\H\D\N\ (See Datasheet)", 6 GND (power) "Ground. Connect the bottom of the resistor divider that sets output voltage directly to GND for the best regulation.", 7 EP (power) "Ground. The exposed pad (backside) of the DFN package is an electrical connection to GND. To ensure optimum performance, solder Pin 7 to the PCB and tie directly to Pin 6."